# Altium schematic symbol library D 电感.SCHLIB: 2 symbols
Pins are listed as number, name and electrical type; pins without a type are passive.

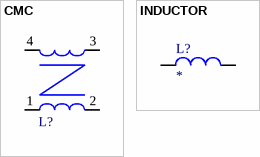
[diagram p0: symbols CMC to INDUCTOR]

## CMC
designator L?
共模电感
pins: 1, 2, 3, 4

## INDUCTOR
designator L?
电感
pins: 1, 2